# EAGLE library part LTC2974 (library 1dah)
4 channel power monitor chip. Monitors voltage, current and temp of up to 4 power supply channels and is controlled by PMBUS.
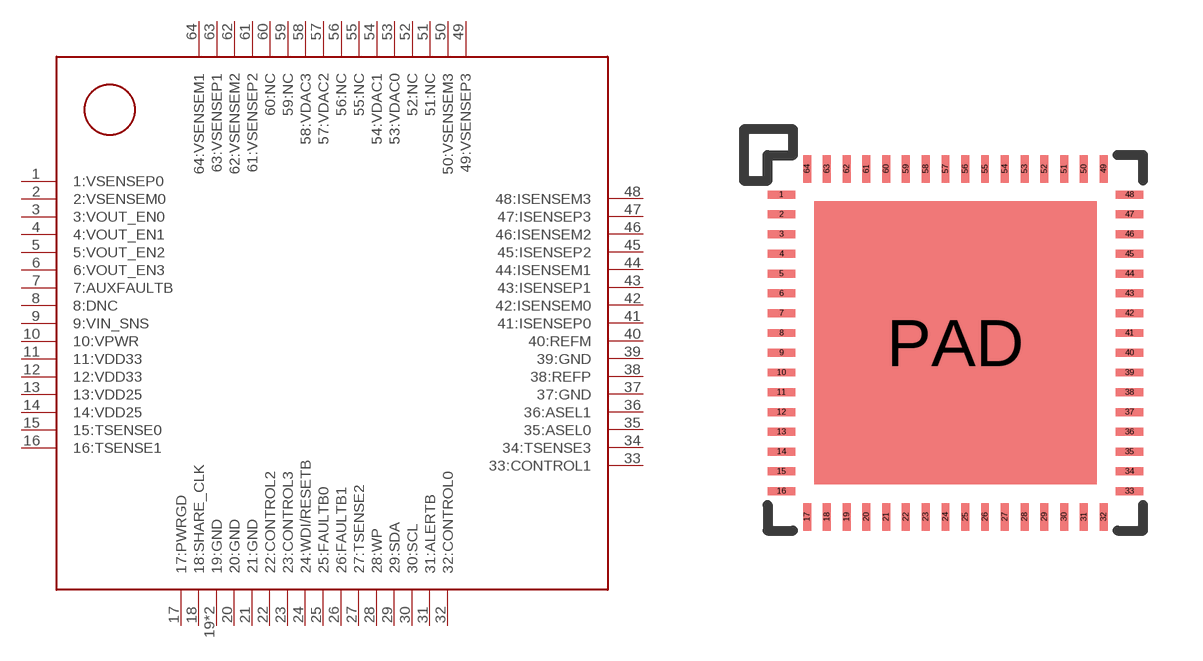
[diagram p53: symbol with the pads of QFN-64; footprint QFN-64]

Designator prefix -

## LTC2974  [QFN-64]
1  1:VSENSEP0
2  2:VSENSEM0
3  3:VOUT_EN0
4  4:VOUT_EN1
5  5:VOUT_EN2
6  6:VOUT_EN3
7  7:AUXFAULTB
8  8:DNC
9  9:VIN_SNS
10  10:VPWR
11  11:VDD33
12  12:VDD33
13  13:VDD25
14  14:VDD25
15  15:TSENSE0
16  16:TSENSE1
17  17:PWRGD
18  18:SHARE_CLK
19  19:GND
20  20:GND
21  21:GND
22  22:CONTROL2
23  23:CONTROL3
24  24:WDI/RESETB
25  25:FAULTB0
26  26:FAULTB1
27  27:TSENSE2
28  28:WP
29  29:SDA
30  30:SCL
31  31:ALERTB
32  32:CONTROL0
33  33:CONTROL1
34  34:TSENSE3
35  35:ASEL0
36  36:ASEL1
37  37:GND
38  38:REFP
39  39:GND
40  40:REFM
41  41:ISENSEP0
42  42:ISENSEM0
43  43:ISENSEP1
44  44:ISENSEM1
45  45:ISENSEP2
46  46:ISENSEM2
47  47:ISENSEP3
48  48:ISENSEM3
49  49:VSENSEP3
50  50:VSENSEM3
51  51:NC
52  52:NC
53  53:VDAC0
54  54:VDAC1
55  55:NC
56  56:NC
57  57:VDAC2
58  58:VDAC3
59  59:NC
60  60:NC
61  61:VSENSEP2
62  62:VSENSEM2
63  63:VSENSEP1
64  64:VSENSEM1
PAD  19:GND

## Footprint QFN-64 (pad centres in mm)
smd 0.7 x 0.2: 1 -4.4,3.75; 2 -4.4,3.25; 3 -4.4,2.75; 4 -4.4,2.25; 5 -4.4,1.75; 6 -4.4,1.25; 7 -4.4,0.75; 8 -4.4,0.25; 9 -4.4,-0.25; 10 -4.4,-0.75; 11 -4.4,-1.25; 12 -4.4,-1.75; 13 -4.4,-2.25; 14 -4.4,-2.75; 15 -4.4,-3.25; 16 -4.4,-3.75; 33 4.4,-3.75; 34 4.4,-3.25; 35 4.4,-2.75; 36 4.4,-2.25; 37 4.4,-1.75; 38 4.4,-1.25; 39 4.4,-0.75; 40 4.4,-0.25; 41 4.4,0.25; 42 4.4,0.75; 43 4.4,1.25; 44 4.4,1.75; 45 4.4,2.25; 46 4.4,2.75; 47 4.4,3.25; 48 4.4,3.75
smd 0.2 x 0.7: 17 -3.75,-4.4; 18 -3.25,-4.4; 19 -2.75,-4.4; 20 -2.25,-4.4; 21 -1.75,-4.4; 22 -1.25,-4.4; 23 -0.75,-4.4; 24 -0.25,-4.4; 25 0.25,-4.4; 26 0.75,-4.4; 27 1.25,-4.4; 28 1.75,-4.4; 29 2.25,-4.4; 30 2.75,-4.4; 31 3.25,-4.4; 32 3.75,-4.4; 49 3.75,4.4; 50 3.25,4.4; 51 2.75,4.4; 52 2.25,4.4; 53 1.75,4.4; 54 1.25,4.4; 55 0.75,4.4; 56 0.25,4.4; 57 -0.25,4.4; 58 -0.75,4.4; 59 -1.25,4.4; 60 -1.75,4.4; 61 -2.25,4.4; 62 -2.75,4.4; 63 -3.25,4.4; 64 -3.75,4.4
smd 7.15 x 7.15: PAD 0,0